# Altium footprint library Conan.PcbLib: 2 footprints
Each footprint in its own frame and in the unit in brackets; x right, y up, seen from the top. Pads: shape width x height; smd on the part's side, far side on the other; paste and mask are expansions set on the pad; w line width, h text height; cw(c..) or ccw(c..) is an arc to the next point about the centre after c.
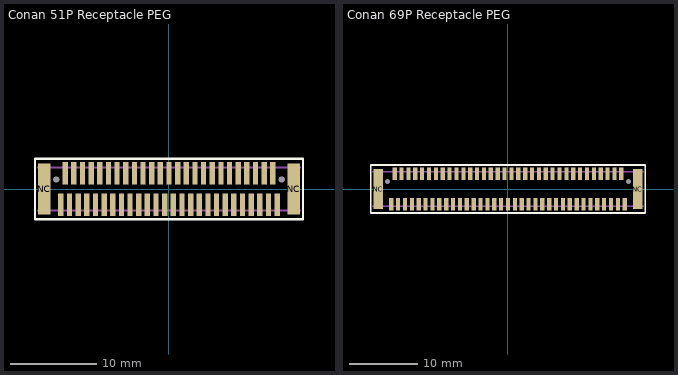
[diagram p0: the footprints below, top view; thin cyan lines are the x and y axes]

## Conan 51P Receptacle PEG [mm] "FCI Conan 51P Receptacle with pegs (heights vary)"
pads (55):
  rect 0.61x2.6 smd mask+0.051: 1(-12.5,-1.795) 2(-11.5,-1.795) 3(-10.5,-1.795) 4(-9.5,-1.795) 5(-8.5,-1.795) 6(-7.5,-1.795) 7(-6.5,-1.795) 8(-5.5,-1.795) 9(-4.5,-1.795) 10(-3.5,-1.795) 11(-2.5,-1.795) 12(-1.5,-1.795) 13(-0.5,-1.795) 14(0.5,-1.795) 15(1.5,-1.795) 16(2.5,-1.795) 17(3.5,-1.795) 18(4.5,-1.795) 19(5.5,-1.795) 20(6.5,-1.795) 21(7.5,-1.795) 22(8.5,-1.795) 23(9.5,-1.795) 24(10.5,-1.795) 25(11.5,-1.795) 26(12.5,-1.795) 27(12,1.795) 28(11,1.795) 29(10,1.795) 30(9,1.795) 31(8,1.795) 32(7,1.795) 33(6,1.795) 34(5,1.795) 35(4,1.795) 36(3,1.795) 37(2,1.795) 38(1,1.795) 39(0,1.795) 40(-1,1.795) 41(-2,1.795) 42(-3,1.795) 43(-4,1.795) 44(-5,1.795) 45(-6,1.795) 46(-7,1.795) 47(-8,1.795) 48(-9,1.795) 49(-10,1.795) 50(-11,1.795) 51(-12,1.795)
  round 0.25 hole 0.72 unplated: MH(-13.03,1.1) MH(13.03,1.1)
  rect 1.4x5.85 smd: NC(-14.415,0) NC(14.415,0)
Top Overlay:
  lines w0.254: -15.5,-3.5 15.5,-3.5 15.5,3.5 -15.5,3.5 -15.5,-3.5
Mechanical 13:
  lines w0.254: -15.15,-2.5 15.15,-2.5 ; -15.15,2.5 15.15,2.5
3D body: height 3.23, standoff -0.05, extent -15.15,-2.794 15.15,2.796

## Conan 69P Receptacle PEG [mm] "FCI Conan 69P Receptacle with pegs (universal)"
height 3.28
pads (73):
  rect 0.61x1.8 smd mask+0.051: 1(-17,-2.195) 2(-16,-2.195) 3(-15,-2.195) 4(-14,-2.195) 5(-13,-2.195) 6(-12,-2.195) 7(-11,-2.195) 8(-10,-2.195) 9(-9,-2.195) 10(-8,-2.195) 11(-7,-2.195) 12(-6,-2.195) 13(-5,-2.195) 14(-4,-2.195) 15(-3,-2.195) 16(-2,-2.195) 17(-1,-2.195) 18(0,-2.195) 19(1,-2.195) 20(2,-2.195) 21(3,-2.195) 22(4,-2.195) 23(5,-2.195) 24(6,-2.195) 25(7,-2.195) 26(8,-2.195) 27(9,-2.195) 28(10,-2.195) 29(11,-2.195) 30(12,-2.195) 31(13,-2.195) 32(14,-2.195) 33(15,-2.195) 34(16,-2.195) 35(17,-2.195) 36(16.5,2.195) 37(15.5,2.195) 38(14.5,2.195) 39(13.5,2.195) 40(12.5,2.195) 41(11.5,2.195) 42(10.5,2.195) 43(9.5,2.195) 44(8.5,2.195) 45(7.5,2.195) 46(6.5,2.195) 47(5.5,2.195) 48(4.5,2.195) 49(3.5,2.195) 50(2.5,2.195) 51(1.5,2.195) 52(0.5,2.195) 53(-0.5,2.195) 54(-1.5,2.195) 55(-2.5,2.195) 56(-3.5,2.195) 57(-4.5,2.195) 58(-5.5,2.195) 59(-6.5,2.195) 60(-7.5,2.195) 61(-8.5,2.195) 62(-9.5,2.195) 63(-10.5,2.195) 64(-11.5,2.195) 65(-12.5,2.195) 66(-13.5,2.195) 67(-14.5,2.195) 68(-15.5,2.195) 69(-16.5,2.195)
  round 0.25 hole 0.72 unplated: MH(-17.526,1.1) MH(17.526,1.1)
  rect 1.4x5.85 smd: NC(-18.915,0) NC(18.915,0)
Top Overlay:
  lines w0.254: -20,-3.5 20,-3.5 20,3.5 -20,3.5 -20,-3.5
Mechanical 13:
  lines w0.254: -19.65,-2.5 19.65,-2.5 ; -19.65,2.5 19.65,2.5
3D body: height 3.23, standoff -0.05, extent -19.65,-2.794 19.65,2.796